# Altium schematic symbol library Flyback Transformers.SchLib: 68 symbols
Pins are listed as number, name and electrical type; pins without a type are passive.

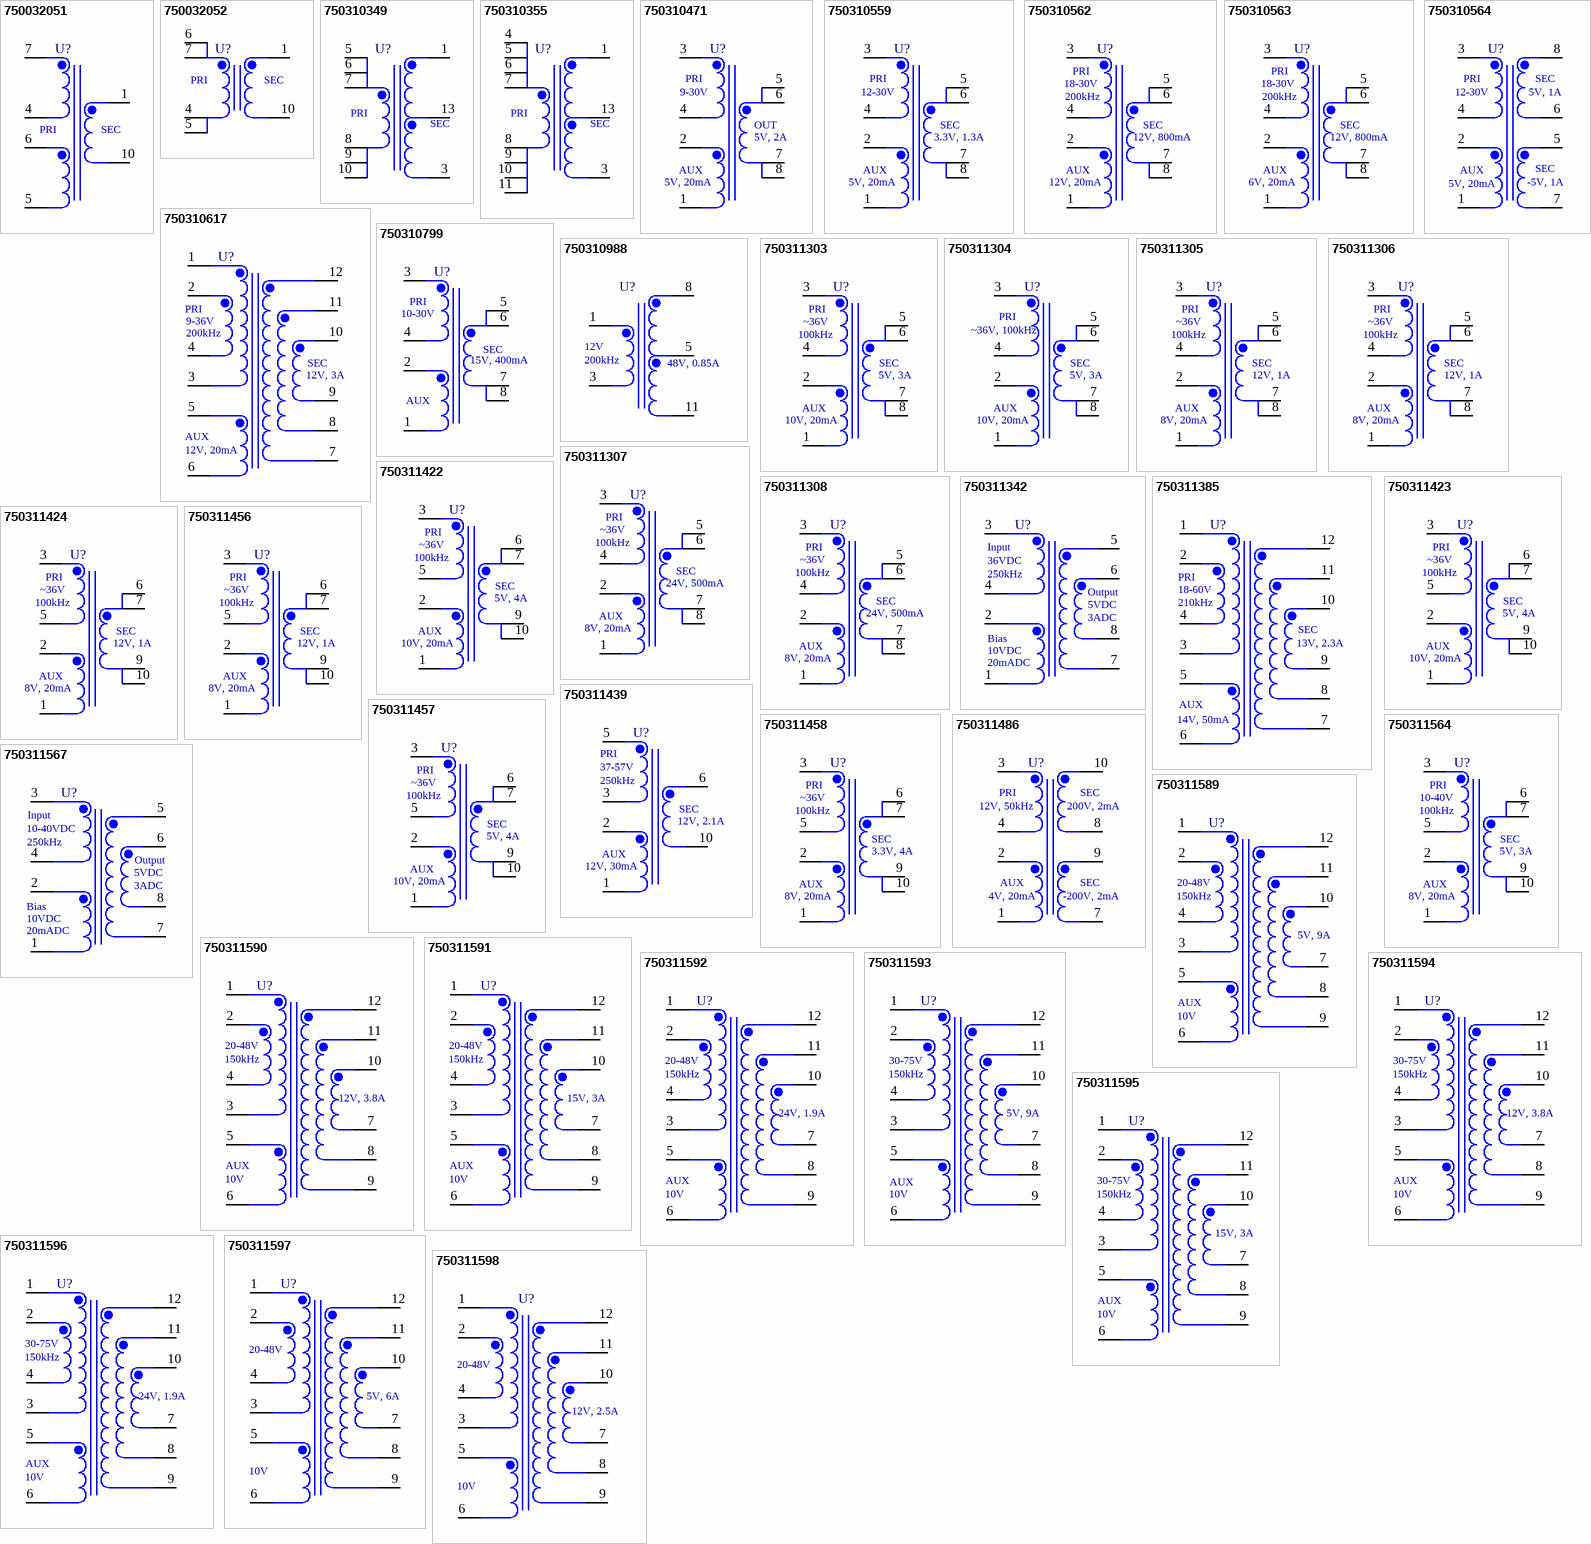
[diagram p0: symbols 750032051 to 750311598]

## 750032051
designator U?  (value not drawn)
WE-FB 3751 Flyback Transformer for LT3751, size EFD20, Ui=18-30Vdc; Turns Ratio: 1:10; ComponentLink1Description: Manufacturer; ComponentLink1URL: http://www.we-online.de; ComponentLink2Description: Datasheet; ComponentLink2URL: http://katalog.we-online.de/pbs/datasheet/750032051.pdf; Part Number: 750032051; Published Date: July 2017; Publisher: Wurth Elektronik; Input Voltage: 18-30Vdc; Size: EFD20; IC Reference: LT3751; Value: 750032051
footprint WE-FB 3751_EFD20 (Flyback Transformer for LT3751, size EE35/18/10)
pins: 1, 4, 5, 6, 7, 10
text: PRI; SEC

## 750032052
designator U?  (value not drawn)
WE-FB 3751 Flyback Transformer for LT3751, size EFD20, Ui=18-30Vdc; Turns Ratio: 1:10; ComponentLink1Description: Manufacturer; ComponentLink1URL: http://www.we-online.de; ComponentLink2Description: Datasheet; ComponentLink2URL: http://katalog.we-online.de/pbs/datasheet/750032052.pdf; Part Number: 750032052; Published Date: July 2017; Publisher: Wurth Elektronik; Input Voltage: 18-30Vdc; Size: EFD20; IC Reference: LT3751; Value: 750032052
footprint WE-FB 3751_EFD20 (Flyback Transformer for LT3751, size EE35/18/10)
pins: 1, 4, 5, 6, 7, 10
text: PRI; SEC

## 750310349
designator U?  (value not drawn)
WE-FB 3751 Flyback Transformer for LT3751, size EE35/18/10, Ui=18-30Vdc; Turns Ratio: 1:10; ComponentLink1Description: Manufacturer; ComponentLink1URL: http://www.we-online.de; ComponentLink2Description: Datasheet; ComponentLink2URL: http://katalog.we-online.de/pbs/datasheet/750310349.pdf; Part Number: 750310349; Published Date: July 2017; Publisher: Wurth Elektronik; Input Voltage: 18-30Vdc; Size: EE35/18/10; IC Reference: LT3751; Value: 750310349
footprint WE-FB 3751_EE35/18/10 (Flyback Transformer for LT3751, size EE35/18/10)
pins: 1, 3, 5, 6, 7, 8, 9, 10, 13
text: PRI; SEC

## 750310355
designator U?  (value not drawn)
WE-FB 3751 Flyback Transformer for LT3751, size EE35/18/10, Ui=18-30Vdc; Turns Ratio: 1:10; ComponentLink1Description: Manufacturer; ComponentLink1URL: http://www.we-online.de; ComponentLink2Description: Datasheet; ComponentLink2URL: http://katalog.we-online.de/pbs/datasheet/750310355.pdf; Part Number: 750310355; Published Date: July 2017; Publisher: Wurth Elektronik; Input Voltage: 18-30Vdc; Size: EE35/18/10; IC Reference: LT3751; Value: 750310355
footprint WE-FB 3751_EE35/18/10 (Flyback Transformer for LT3751, size EE35/18/10)
pins: 1, 3, 4, 5, 6, 7, 8, 9, 10, 11, 13
text: PRI; SEC

## 750310471
designator U?  (value not drawn)
WE-FB Flyback Transformer suitable for LT3573/ LT3574/ LT3575/ LT3748, size EP10, Ui=9-30Vdc; IC Reference: LT3573 & LT3575; Turns Ratio: 3:1; ComponentLink1Description: Manufacturer; ComponentLink1URL: http://www.we-online.de; ComponentLink2Description: Datasheet; ComponentLink2URL: http://katalog.we-online.de/pbs/datasheet/750310471.pdf; Part Number: 750310471; Published Date: July 2017; Publisher: Wurth Elektronik; Input Voltage: 9-30Vdc; Size: EP10; Value: 750310471
footprint 750310471
pins: 1, 2, 3, 4, 5, 6, 7, 8
text: PRI; 9-30V; OUT; 5V, 2A; AUX; 5V, 20mA

## 750310559
designator U?  (value not drawn)
WE-FB Flyback Transformer suitable for LT3573/ LT3574/ LT3575/ LT3748, size EP10, Ui=12-30Vdc; IC Reference: LT3573 & LT3575; Turns Ratio: 4:1; ComponentLink1Description: Manufacturer; ComponentLink1URL: http://www.we-online.de; ComponentLink2Description: Datasheet; ComponentLink2URL: http://katalog.we-online.de/pbs/datasheet/750310559.pdf; Part Number: 750310559; Published Date: July 2017; Publisher: Wurth Elektronik; Input Voltage: 12-30Vdc; Size: EP10; Value: 750310559
footprint 750310559
pins: 1, 2, 3, 4, 5, 6, 7, 8
text: PRI; 12-30V; SEC; 3.3V, 1.3A; AUX; 5V, 20mA

## 750310562
designator U?  (value not drawn)
WE-FB Flyback Transformer suitable for LT3573/ LT3574/ LT3575/ LT3748, size EP10, Ui=18-30Vdc; IC Reference: LT3573 & LT3575; Turns Ratio: 2:1; ComponentLink1Description: Manufacturer; ComponentLink1URL: http://www.we-online.de; ComponentLink2Description: Datasheet; ComponentLink2URL: http://katalog.we-online.de/pbs/datasheet/750310562.pdf; Part Number: 750310562; Published Date: July 2017; Publisher: Wurth Elektronik; Input Voltage: 18-30Vdc; Size: EP10; Value: 750310562
footprint 750310562
pins: 1, 2, 3, 4, 5, 6, 7, 8
text: PRI; 18-30V; 200kHz; SEC; 12V, 800mA; AUX; 12V, 20mA

## 750310563
designator U?  (value not drawn)
WE-FB Flyback Transformer suitable for LT3573/ LT3574/ LT3575/ LT3748, size EP10, Ui=18-30Vdc; IC Reference: LT3573 & LT3575; Turns Ratio: 1:1; ComponentLink1Description: Manufacturer; ComponentLink1URL: http://www.we-online.de; ComponentLink2Description: Datasheet; ComponentLink2URL: http://katalog.we-online.de/pbs/datasheet/750310563.pdf; Part Number: 750310563; Published Date: July 2017; Publisher: Wurth Elektronik; Input Voltage: 18-30Vdc; Size: EP10; Value: 750310563
footprint 750310563
pins: 1, 2, 3, 4, 5, 6, 7, 8
text: PRI; 18-30V; 200kHz; SEC; 12V, 800mA; AUX; 6V, 20mA

## 750310564
designator U?  (value not drawn)
WE-FB Flyback Transformer suitable for LT3573/ LT3574/ LT3575/ LT3748, size EP10, Ui=12-30Vdc; IC Reference: LT3574 & LT3573 & LT3575; Turns Ratio: 3:1; ComponentLink1Description: Manufacturer; ComponentLink1URL: http://www.we-online.de; ComponentLink2Description: Datasheet; ComponentLink2URL: http://katalog.we-online.de/pbs/datasheet/750310564.pdf; Part Number: 750310564; Published Date: July 2017; Publisher: Wurth Elektronik; Input Voltage: 12-30Vdc; Size: EP10; Value: 750310564
footprint 750310564
pins: 1, 2, 3, 4, 5, 6, 7, 8
text: PRI; SEC; 12-30V; 5V, 1A; AUX; 5V, 20mA; -5V, 1A

## 750310617
designator U?  (value not drawn)
WE-FB Flyback Transformer suitable for LT3573/ LT3574/ LT3575/ LT3748, size EFD20, Ui=9-36Vdc; Turns Ratio: 1:1.16; ComponentLink1Description: Manufacturer; ComponentLink1URL: http://www.we-online.de; ComponentLink2Description: Datasheet; ComponentLink2URL: http://katalog.we-online.de/pbs/datasheet/750310617.pdf; Part Number: 750310617; Published Date: July 2017; Publisher: Wurth Elektronik; Input Voltage: 9-36Vdc; Size: EFD20; IC Reference: LT3748; Value: 750310617
footprint 750310617
pins: 1, 2, 3, 4, 5, 6, 7, 8, 9, 10, 11, 12
text: PRI; 9-36V; 200kHz; SEC; 12V, 3A; AUX; 12V, 20mA

## 750310799
designator U?  (value not drawn)
WE-FB Flyback Transformer suitable for LT3573/ LT3574/ LT3575/ LT3748, size EP7, Ui=10-30Vdc; IC Reference: LT3573; Turns Ratio: 1:1; ComponentLink1Description: Manufacturer; ComponentLink1URL: http://www.we-online.de; ComponentLink2Description: Datasheet; ComponentLink2URL: http://katalog.we-online.de/pbs/datasheet/750310799.pdf; Part Number: 750310799; Published Date: July 2017; Publisher: Wurth Elektronik; Input Voltage: 10-30Vdc; Size: EP7; Value: 750310799
footprint 750310799
pins: 1, 2, 3, 4, 5, 6, 7, 8
text: PRI; 10-30V; SEC; 15V, 400mA; AUX

## 750310988
designator U?  (value not drawn)
WE-FB Flyback Transformer suitable for LT3573/ LT3574/ LT3575/ LT3748, size EFD25, Ui=12Vdc; Input Voltage: 12Vdc; Turns Ratio: 1:4.42; ComponentLink1Description: Manufacturer; ComponentLink1URL: http://www.we-online.de; ComponentLink2Description: Datasheet; ComponentLink2URL: http://katalog.we-online.de/pbs/datasheet/750310988.pdf; Part Number: 750310988; Published Date: July 2017; Publisher: Wurth Elektronik; Size: EFD25; IC Reference: LT3748; Value: 750310988
footprint 750310988
pins: 1, 3, 5, 8, 11
text: 12V; 200kHz; 48V, 0.85A

## 750311303
designator U?  (value not drawn)
WE-FB Flyback Transformer suitable for LT3573/ LT3574/ LT3575/ LT3748, size EP10, Ui=36Vdc; Input Voltage: 36Vdc; IC Reference: LT3575; Turns Ratio: 5:1; ComponentLink1Description: Manufacturer; ComponentLink1URL: http://www.we-online.de; ComponentLink2Description: Datasheet; ComponentLink2URL: http://katalog.we-online.de/pbs/datasheet/750311303.pdf; Part Number: 750311303; Published Date: July 2017; Publisher: Wurth Elektronik; Size: EP10; Value: 750311303
footprint 750311303
pins: 1, 2, 3, 4, 5, 6, 7, 8
text: PRI; ~36V; 100kHz; SEC; 5V, 3A; AUX; 10V, 20mA

## 750311304
designator U?  (value not drawn)
WE-FB Flyback Transformer suitable for LT3573/ LT3574/ LT3575/ LT3748, size EP10, Ui=36Vdc; Input Voltage: 36Vdc; IC Reference: LT3574 & LT3575; Turns Ratio: 4:1; ComponentLink1Description: Manufacturer; ComponentLink1URL: http://www.we-online.de; ComponentLink2Description: Datasheet; ComponentLink2URL: http://katalog.we-online.de/pbs/datasheet/750311304.pdf; Part Number: 750311304; Published Date: July 2017; Publisher: Wurth Elektronik; Size: EP10; Value: 750311304
footprint 750311304
pins: 1, 2, 3, 4, 5, 6, 7, 8
text: PRI; ~36V, 100kHz; SEC; 5V, 3A; AUX; 10V, 20mA

## 750311305
designator U?  (value not drawn)
WE-FB Flyback Transformer suitable for LT3573/ LT3574/ LT3575/ LT3748, size EP10, Ui=36Vdc; Input Voltage: 36Vdc; IC Reference: LT3575; Turns Ratio: 3:1; ComponentLink1Description: Manufacturer; ComponentLink1URL: http://www.we-online.de; ComponentLink2Description: Datasheet; ComponentLink2URL: http://katalog.we-online.de/pbs/datasheet/750311305.pdf; Part Number: 750311305; Published Date: July 2017; Publisher: Wurth Elektronik; Size: EP10; Value: 750311305
footprint 750311305
pins: 1, 2, 3, 4, 5, 6, 7, 8
text: PRI; ~36V; 100kHz; SEC; 12V, 1A; AUX; 8V, 20mA

## 750311306
designator U?  (value not drawn)
WE-FB Flyback Transformer suitable for LT3573/ LT3574/ LT3575/ LT3748, size EP10, Ui=36Vdc; Input Voltage: 36Vdc; IC Reference: LT3575; Turns Ratio: 3:1; ComponentLink1Description: Manufacturer; ComponentLink1URL: http://www.we-online.de; ComponentLink2Description: Datasheet; ComponentLink2URL: http://katalog.we-online.de/pbs/datasheet/750311306.pdf; Part Number: 750311306; Published Date: July 2017; Publisher: Wurth Elektronik; Size: EP10; Value: 750311306
footprint 750311306
pins: 1, 2, 3, 4, 5, 6, 7, 8
text: PRI; ~36V; 100kHz; SEC; 12V, 1A; AUX; 8V, 20mA

## 750311307
designator U?  (value not drawn)
WE-FB Flyback Transformer suitable for LT3573/ LT3574/ LT3575/ LT3748, size EP10, Ui=36Vdc; Input Voltage: 36Vdc; IC Reference: LT3574 & LT3575; Turns Ratio: 2:1; ComponentLink1Description: Manufacturer; ComponentLink1URL: http://www.we-online.de; ComponentLink2Description: Datasheet; ComponentLink2URL: http://katalog.we-online.de/pbs/datasheet/750311307.pdf; Part Number: 750311307; Published Date: July 2017; Publisher: Wurth Elektronik; Size: EP10; Value: 750311307
footprint 750311307
pins: 1, 2, 3, 4, 5, 6, 7, 8
text: PRI; ~36V; 100kHz; SEC; 24V, 500mA; AUX; 8V, 20mA

## 750311308
designator U?  (value not drawn)
WE-FB Flyback Transformer suitable for LT3573/ LT3574/ LT3575/ LT3748, size EP10, Ui=36Vdc; Input Voltage: 36Vdc; IC Reference: LT3574 & LT3575; Turns Ratio: 1:1; ComponentLink1Description: Manufacturer; ComponentLink1URL: http://www.we-online.de; ComponentLink2Description: Datasheet; ComponentLink2URL: http://katalog.we-online.de/pbs/datasheet/750311308.pdf; Part Number: 750311308; Published Date: July 2017; Publisher: Wurth Elektronik; Size: EP10; Value: 750311308
footprint 750311308
pins: 1, 2, 3, 4, 5, 6, 7, 8
text: PRI; ~36V; 100kHz; SEC; 24V, 500mA; AUX; 8V, 20mA

## 750311342
designator U?  (value not drawn)
WE-FB Flyback Transformer suitable for LT3573/ LT3574/ LT3575/ LT3748, size EP10, Ui=36Vdc; Input Voltage: 36Vdc; IC Reference: LT3575; Turns Ratio: 2:1; ComponentLink1Description: Manufacturer; ComponentLink1URL: http://www.we-online.de; ComponentLink2Description: Datasheet; ComponentLink2URL: http://katalog.we-online.de/pbs/datasheet/750311342.pdf; Part Number: 750311342; Published Date: July 2017; Publisher: Wurth Elektronik; Size: EP10; Value: 750311342
footprint 750311342
pins: 1, 2, 3, 4, 5, 6, 7, 8
text: Input; 36VDC; 250kHz; Output; 5VDC; 3ADC; Bias; 10VDC; 20mADC

## 750311385
designator U?  (value not drawn)
WE-FB Flyback Transformer suitable for LT3573/ LT3574/ LT3575/ LT3748, size EFD20, Ui=18-60Vdc; Turns Ratio: 1.25:1; ComponentLink1Description: Manufacturer; ComponentLink1URL: http://www.we-online.de; ComponentLink2Description: Datasheet; ComponentLink2URL: http://katalog.we-online.de/pbs/datasheet/750311385.pdf; Part Number: 750311385; Published Date: July 2017; Publisher: Wurth Elektronik; Input Voltage: 18-60Vdc; Size: EFD20; IC Reference: LT3748; Value: 750311385
footprint 750311385
pins: 1, 2, 3, 4, 5, 6, 7, 8, 9, 10, 11, 12
text: PRI; 18-60V; 210kHz; SEC; 13V, 2.3A; AUX; 14V, 50mA

## 750311422
designator U?  (value not drawn)
WE-FB Flyback Transformer suitable for LT3573/ LT3574/ LT3575/ LT3748, size EP13, Ui=36Vdc; Input Voltage: 36Vdc; IC Reference: LT3575 & LT3748; Turns Ratio: 5:1; ComponentLink1Description: Manufacturer; ComponentLink1URL: http://www.we-online.de; ComponentLink2Description: Datasheet; ComponentLink2URL: http://katalog.we-online.de/pbs/datasheet/750311422.pdf; Part Number: 750311422; Published Date: July 2017; Publisher: Wurth Elektronik; Size: EP13; Value: 750311422
footprint 750311422
pins: 1, 2, 3, 5, 6, 7, 9, 10
text: PRI; ~36V; 100kHz; SEC; 5V, 4A; AUX; 10V, 20mA

## 750311423
designator U?  (value not drawn)
WE-FB Flyback Transformer suitable for LT3573/ LT3574/ LT3575/ LT3748, size EP13, Ui=36Vdc; Input Voltage: 36Vdc; IC Reference: LT3575 & LT3748; Turns Ratio: 4:1; ComponentLink1Description: Manufacturer; ComponentLink1URL: http://www.we-online.de; ComponentLink2Description: Datasheet; ComponentLink2URL: http://katalog.we-online.de/pbs/datasheet/750311423.pdf; Part Number: 750311423; Published Date: July 2017; Publisher: Wurth Elektronik; Size: EP13; Value: 750311423
footprint 750311423
pins: 1, 2, 3, 5, 6, 7, 9, 10
text: PRI; ~36V; 100kHz; SEC; 5V, 4A; AUX; 10V, 20mA

## 750311424
designator U?  (value not drawn)
WE-FB Flyback Transformer suitable for LT3573/ LT3574/ LT3575/ LT3748, size EP13, Ui=36Vdc; Input Voltage: 36Vdc; Turns Ratio: 3:1; ComponentLink1Description: Manufacturer; ComponentLink1URL: http://www.we-online.de; ComponentLink2Description: Datasheet; ComponentLink2URL: http://katalog.we-online.de/pbs/datasheet/750311424.pdf; Part Number: 750311424; Published Date: July 2017; Publisher: Wurth Elektronik; Size: EP13; IC Reference: LT3748; Value: 750311424
footprint 750311424
pins: 1, 2, 3, 5, 6, 7, 9, 10
text: PRI; ~36V; 100kHz; SEC; 12V, 1A; AUX; 8V, 20mA

## 750311439
designator U?  (value not drawn)
WE-FB Flyback Transformer suitable for LT3573/ LT3574/ LT3575/ LT3748, size EP13, Ui=37-57Vdc; IC Reference: LT3575 & LT3748; Turns Ratio: 2:1; ComponentLink1Description: Manufacturer; ComponentLink1URL: http://www.we-online.de; ComponentLink2Description: Datasheet; ComponentLink2URL: http://katalog.we-online.de/pbs/datasheet/750311439.pdf; Part Number: 750311439; Published Date: July 2017; Publisher: Wurth Elektronik; Input Voltage: 37-57Vdc; Size: EP13; Value: 750311439
footprint 750311439
pins: 1, 2, 3, 5, 6, 10
text: PRI; 37-57V; 250kHz; SEC; 12V, 2.1A; AUX; 12V, 30mA

## 750311456
designator U?  (value not drawn)
WE-FB Flyback Transformer suitable for LT3573/ LT3574/ LT3575/ LT3748, size EP13, Ui=36Vdc; Input Voltage: 36Vdc; Turns Ratio: 3:1; ComponentLink1Description: Manufacturer; ComponentLink1URL: http://www.we-online.de; ComponentLink2Description: Datasheet; ComponentLink2URL: http://katalog.we-online.de/pbs/datasheet/750311456.pdf; Part Number: 750311456; Published Date: July 2017; Publisher: Wurth Elektronik; Size: EP13; IC Reference: LT3748; Value: 750311456
footprint 750311456
pins: 1, 2, 3, 5, 6, 7, 9, 10
text: PRI; ~36V; 100kHz; SEC; 12V, 1A; AUX; 8V, 20mA

## 750311457
designator U?  (value not drawn)
WE-FB Flyback Transformer suitable for LT3573/ LT3574/ LT3575/ LT3748, size EP13, Ui=36Vdc; Input Voltage: 36Vdc; IC Reference: LT3575 & LT3748; Turns Ratio: 4:1; ComponentLink1Description: Manufacturer; ComponentLink1URL: http://www.we-online.de; ComponentLink2Description: Datasheet; ComponentLink2URL: http://katalog.we-online.de/pbs/datasheet/750311457.pdf; Part Number: 750311457; Published Date: July 2017; Publisher: Wurth Elektronik; Size: EP13; Value: 750311457
footprint 750311457
pins: 1, 2, 3, 5, 6, 7, 9, 10
text: PRI; ~36V; 100kHz; SEC; 5V, 4A; AUX; 10V, 20mA

## 750311458
designator U?  (value not drawn)
WE-FB Flyback Transformer suitable for LT3573/ LT3574/ LT3575/ LT3748, size EP13, Ui=36Vdc; Input Voltage: 36Vdc; IC Reference: LT3575 & LT3748; Turns Ratio: 3:1; ComponentLink1Description: Manufacturer; ComponentLink1URL: http://www.we-online.de; ComponentLink2Description: Datasheet; ComponentLink2URL: http://katalog.we-online.de/pbs/datasheet/750311458.pdf; Part Number: 750311458; Published Date: July 2017; Publisher: Wurth Elektronik; Size: EP13; Value: 750311458
footprint 750311458
pins: 1, 2, 3, 5, 6, 7, 9, 10
text: PRI; ~36V; 100kHz; SEC; 3.3V, 4A; AUX; 8V, 20mA

## 750311486
designator U?  (value not drawn)
WE-FB Flyback Transformer suitable for LT3573/ LT3574/ LT3575/ LT3748, size EP13, Ui=12Vdc; Input Voltage: 12Vdc; Turns Ratio: 1:10; ComponentLink1Description: Manufacturer; ComponentLink1URL: http://www.we-online.de; ComponentLink2Description: Datasheet; ComponentLink2URL: http://katalog.we-online.de/pbs/datasheet/750311486.pdf; Part Number: 750311486; Published Date: July 2017; Publisher: Wurth Elektronik; Size: EP13; IC Reference: LT3748; Value: 750311486
footprint 750311486
pins: 1, 2, 3, 4, 7, 8, 9, 10
text: PRI; SEC; 12V, 50kHz; 200V, 2mA; AUX; 4V, 20mA; -200V, 2mA

## 750311564
designator U?  (value not drawn)
WE-FB Flyback Transformer suitable for LT3573/ LT3574/ LT3575/ LT3748, size EP13, Ui=10-40Vdc; IC Reference: LT3575 & LT3748; Turns Ratio: 3:1; ComponentLink1Description: Manufacturer; ComponentLink1URL: http://www.we-online.de; ComponentLink2Description: Datasheet; ComponentLink2URL: http://katalog.we-online.de/pbs/datasheet/750311564.pdf; Part Number: 750311564; Published Date: July 2017; Publisher: Wurth Elektronik; Input Voltage: 10-40Vdc; Size: EP13; Value: 750311564
footprint 750311564
pins: 1, 2, 3, 5, 6, 7, 9, 10
text: PRI; 10-40V; 100kHz; SEC; 5V, 3A; AUX; 8V, 20mA

## 750311567
designator U?  (value not drawn)
WE-FB Flyback Transformer suitable for LT3573/ LT3574/ LT3575/ LT3748, size EP10, Ui=10-40Vdc; IC Reference: LT3575 & LT3748; Turns Ratio: 2:1; ComponentLink1Description: Manufacturer; ComponentLink1URL: http://www.we-online.de; ComponentLink2Description: Datasheet; ComponentLink2URL: http://katalog.we-online.de/pbs/datasheet/750311567.pdf; Part Number: 750311567; Published Date: July 2017; Publisher: Wurth Elektronik; Input Voltage: 10-40Vdc; Size: EP10; Value: 750311567
footprint 750311567
pins: 1, 2, 3, 4, 5, 6, 7, 8
text: Input; 10-40VDC; 250kHz; Output; 5VDC; 3ADC; Bias; 10VDC; 20mADC

## 750311589
designator U?  (value not drawn)
WE-FB Flyback Transformer suitable for LT3573/ LT3574/ LT3575/ LT3748, size EFD25, Ui=20-48Vdc; Turns Ratio: 3:1; ComponentLink1Description: Manufacturer; ComponentLink1URL: http://www.we-online.de; ComponentLink2Description: Datasheet; ComponentLink2URL: http://katalog.we-online.de/pbs/datasheet/750311589.pdf; Part Number: 750311589; Published Date: July 2017; Publisher: Wurth Elektronik; Input Voltage: 20-48Vdc; Size: EFD25; IC Reference: LT3748; Value: 750311589
footprint 750311589
pins: 1, 2, 3, 4, 5, 6, 7, 8, 9, 10, 11, 12
text: 20-48V; 150kHz; 5V, 9A; AUX; 10V

## 750311590
designator U?  (value not drawn)
WE-FB Flyback Transformer suitable for LT3573/ LT3574/ LT3575/ LT3748, size EFD25, Ui=20-48Vdc; Turns Ratio: 2:1; ComponentLink1Description: Manufacturer; ComponentLink1URL: http://www.we-online.de; ComponentLink2Description: Datasheet; ComponentLink2URL: http://katalog.we-online.de/pbs/datasheet/750311590.pdf; Part Number: 750311590; Published Date: July 2017; Publisher: Wurth Elektronik; Input Voltage: 20-48Vdc; Size: EFD25; IC Reference: LT3748; Value: 750311590
footprint 750311590
pins: 1, 2, 3, 4, 5, 6, 7, 8, 9, 10, 11, 12
text: 20-48V; 150kHz; 12V, 3.8A; AUX; 10V

## 750311591
designator U?  (value not drawn)
WE-FB Flyback Transformer suitable for LT3573/ LT3574/ LT3575/ LT3748, size EFD25, Ui=20-48Vdc; Turns Ratio: 3:2; ComponentLink1Description: Manufacturer; ComponentLink1URL: http://www.we-online.de; ComponentLink2Description: Datasheet; ComponentLink2URL: http://katalog.we-online.de/pbs/datasheet/750311591.pdf; Part Number: 750311591; Published Date: July 2017; Publisher: Wurth Elektronik; Input Voltage: 20-48Vdc; Size: EFD25; IC Reference: LT3748; Value: 750311591
footprint 750311591
pins: 1, 2, 3, 4, 5, 6, 7, 8, 9, 10, 11, 12
text: 20-48V; 150kHz; 15V, 3A; AUX; 10V

## 750311592
designator U?  (value not drawn)
WE-FB Flyback Transformer suitable for LT3573/ LT3574/ LT3575/ LT3748, size EFD25, Ui=20-48Vdc; Turns Ratio: 1:1; ComponentLink1Description: Manufacturer; ComponentLink1URL: http://www.we-online.de; ComponentLink2Description: Datasheet; ComponentLink2URL: http://katalog.we-online.de/pbs/datasheet/750311592.pdf; Part Number: 750311592; Published Date: July 2017; Publisher: Wurth Elektronik; Input Voltage: 20-48Vdc; Size: EFD25; IC Reference: LT3748; Value: 750311592
footprint 750311592
pins: 1, 2, 3, 4, 5, 6, 7, 8, 9, 10, 11, 12
text: 20-48V; 150kHz; 24V, 1.9A; AUX; 10V

## 750311593
designator U?  (value not drawn)
WE-FB Flyback Transformer suitable for LT3573/ LT3574/ LT3575/ LT3748, size EFD25, Ui=30-75Vdc; Turns Ratio: 7:2; ComponentLink1Description: Manufacturer; ComponentLink1URL: http://www.we-online.de; ComponentLink2Description: Datasheet; ComponentLink2URL: http://katalog.we-online.de/pbs/datasheet/750311593.pdf; Part Number: 750311593; Published Date: July 2017; Publisher: Wurth Elektronik; Input Voltage: 30-75Vdc; Size: EFD25; IC Reference: LT3748; Value: 750311593
footprint 750311593
pins: 1, 2, 3, 4, 5, 6, 7, 8, 9, 10, 11, 12
text: 30-75V; 150kHz; 5V, 9A; AUX; 10V

## 750311594
designator U?  (value not drawn)
WE-FB Flyback Transformer suitable for LT3573/ LT3574/ LT3575/ LT3748, size EFD25, Ui=30-75Vdc; Turns Ratio: 5:2; ComponentLink1Description: Manufacturer; ComponentLink1URL: http://www.we-online.de; ComponentLink2Description: Datasheet; ComponentLink2URL: http://katalog.we-online.de/pbs/datasheet/750311594.pdf; Part Number: 750311594; Published Date: July 2017; Publisher: Wurth Elektronik; Input Voltage: 30-75Vdc; Size: EFD25; IC Reference: LT3748; Value: 750311594
footprint 750311594
pins: 1, 2, 3, 4, 5, 6, 7, 8, 9, 10, 11, 12
text: 30-75V; 150kHz; 12V, 3.8A; AUX; 10V

## 750311595
designator U?  (value not drawn)
WE-FB Flyback Transformer suitable for LT3573/ LT3574/ LT3575/ LT3748, size EFD25, Ui=30-75Vdc; Turns Ratio: 2:1; ComponentLink1Description: Manufacturer; ComponentLink1URL: http://www.we-online.de; ComponentLink2Description: Datasheet; ComponentLink2URL: http://katalog.we-online.de/pbs/datasheet/750311595.pdf; Part Number: 750311595; Published Date: July 2017; Publisher: Wurth Elektronik; Input Voltage: 30-75Vdc; Size: EFD25; IC Reference: LT3748; Value: 750311595
footprint 750311595
pins: 1, 2, 3, 4, 5, 6, 7, 8, 9, 10, 11, 12
text: 30-75V; 150kHz; 15V, 3A; AUX; 10V

## 750311596
designator U?  (value not drawn)
WE-FB Flyback Transformer suitable for LT3573/ LT3574/ LT3575/ LT3748, size EFD25, Ui=30-75Vdc; Turns Ratio: 3:2; ComponentLink1Description: Manufacturer; ComponentLink1URL: http://www.we-online.de; ComponentLink2Description: Datasheet; ComponentLink2URL: http://katalog.we-online.de/pbs/datasheet/750311596.pdf; Part Number: 750311596; Published Date: July 2017; Publisher: Wurth Elektronik; Input Voltage: 30-75Vdc; Size: EFD25; IC Reference: LT3748; Value: 750311596
footprint 750311596
pins: 1, 2, 3, 4, 5, 6, 7, 8, 9, 10, 11, 12
text: 30-75V; 150kHz; 24V, 1.9A; AUX; 10V

## 750311597
designator U?  (value not drawn)
WE-FB Flyback Transformer suitable for LT3573/ LT3574/ LT3575/ LT3748, size EFD20, Ui=20-48Vdc; Turns Ratio: 3:1; ComponentLink1Description: Manufacturer; ComponentLink1URL: http://www.we-online.de; ComponentLink2Description: Datasheet; ComponentLink2URL: http://katalog.we-online.de/pbs/datasheet/750311597.pdf; Part Number: 750311597; Published Date: July 2017; Publisher: Wurth Elektronik; Input Voltage: 20-48Vdc; Size: EFD20; IC Reference: LT3748; Value: 750311597
footprint 750311597
pins: 1, 2, 3, 4, 5, 6, 7, 8, 9, 10, 11, 12
text: 20-48V; 5V, 6A; 10V

## 750311598
designator U?  (value not drawn)
WE-FB Flyback Transformer suitable for LT3573/ LT3574/ LT3575/ LT3748, size EFD20, Ui=20-48Vdc; Turns Ratio: 2:1; ComponentLink1Description: Manufacturer; ComponentLink1URL: http://www.we-online.de; ComponentLink2Description: Datasheet; ComponentLink2URL: http://katalog.we-online.de/pbs/datasheet/750311598.pdf; Part Number: 750311598; Published Date: July 2017; Publisher: Wurth Elektronik; Input Voltage: 20-48Vdc; Size: EFD20; IC Reference: LT3748; Value: 750311598
footprint 750311598
pins: 1, 2, 3, 4, 5, 6, 7, 8, 9, 10, 11, 12
text: 20-48V; 12V, 2.5A; 10V

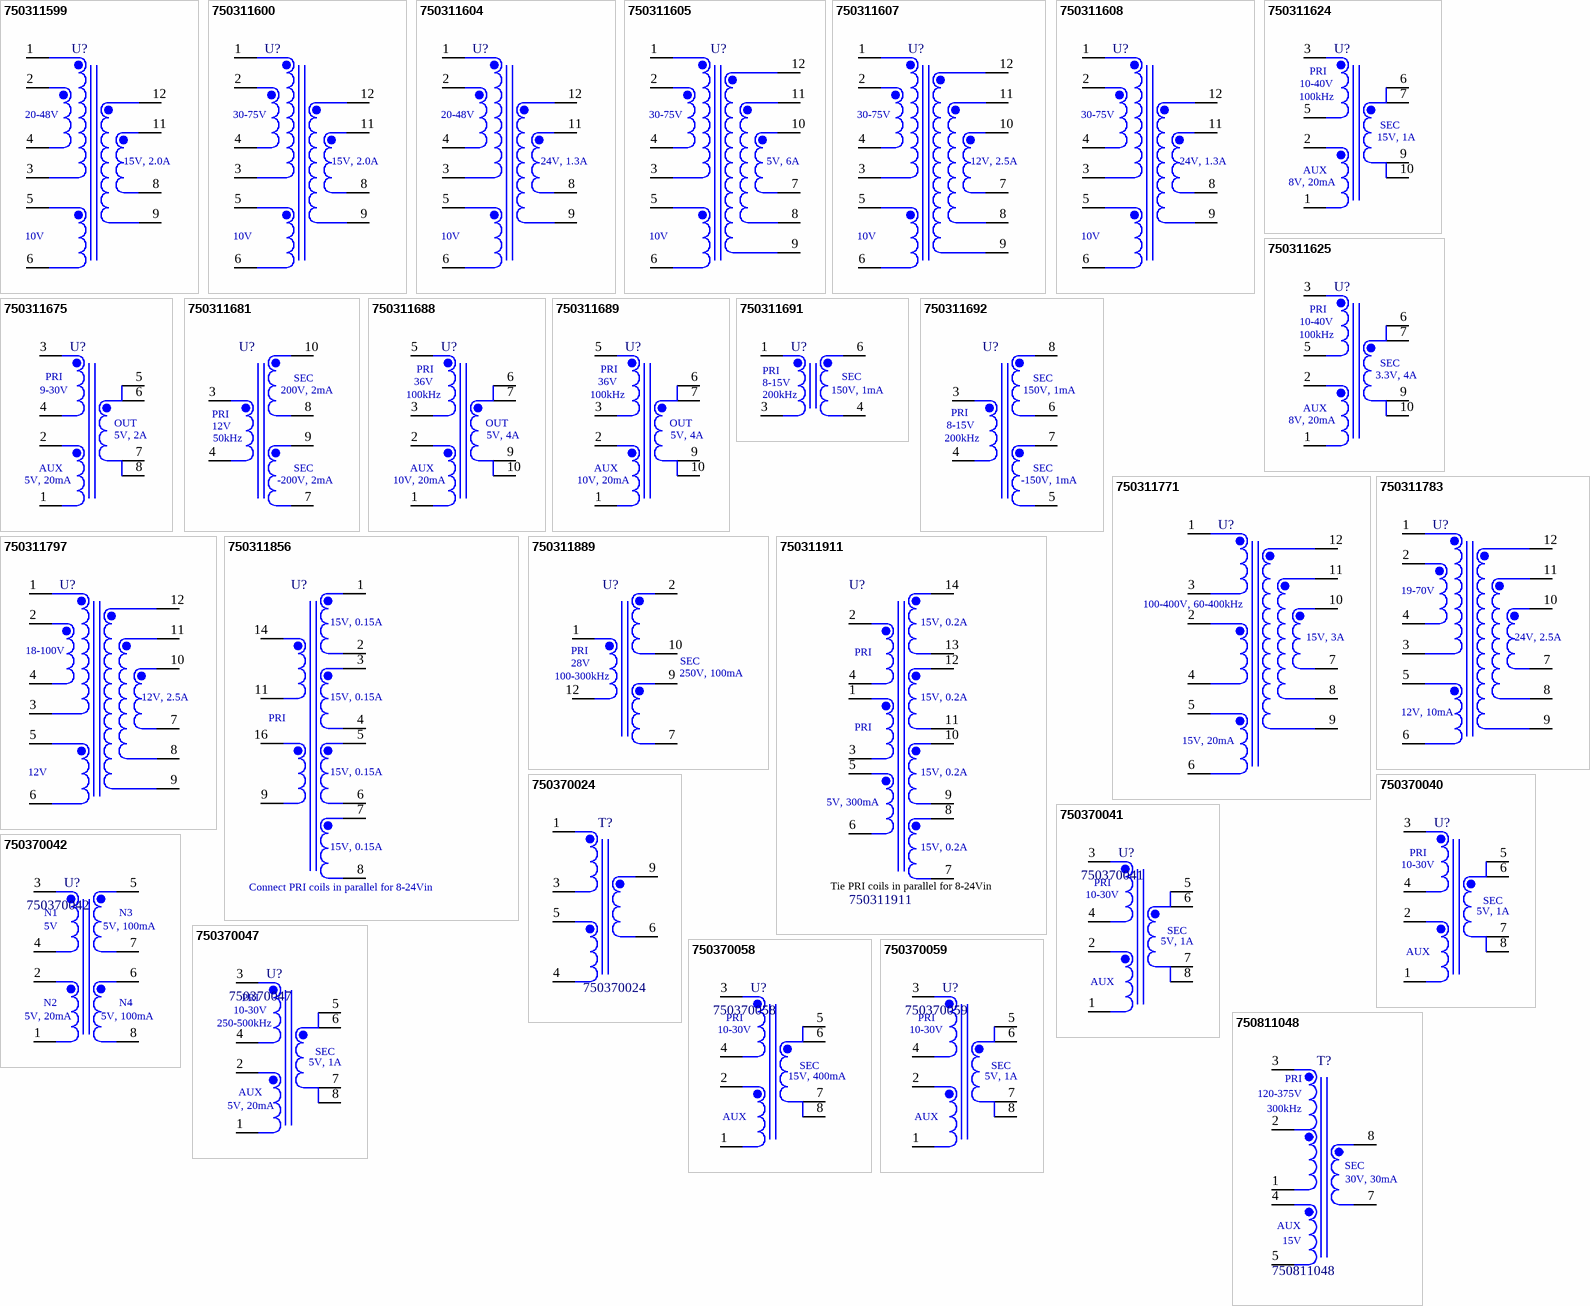
[diagram p1: symbols 750311599 to 750811048]

## 750311599
designator U?  (value not drawn)
WE-FB Flyback Transformer suitable for LT3573/ LT3574/ LT3575/ LT3748, size EFD20, Ui=20-48Vdc; Turns Ratio: 3:2; ComponentLink1Description: Manufacturer; ComponentLink1URL: http://www.we-online.de; ComponentLink2Description: Datasheet; ComponentLink2URL: http://katalog.we-online.de/pbs/datasheet/750311599.pdf; Part Number: 750311599; Published Date: July 2017; Publisher: Wurth Elektronik; Input Voltage: 20-48Vdc; Size: EFD20; IC Reference: LT3748; Value: 750311599
footprint 750311599
pins: 1, 2, 3, 4, 5, 6, 8, 9, 11, 12
text: 20-48V; 15V, 2.0A; 10V

## 750311600
designator U?  (value not drawn)
WE-FB Flyback Transformer suitable for LT3573/ LT3574/ LT3575/ LT3748, size EFD20, Ui=30-75Vdc; Turns Ratio: 2:1; ComponentLink1Description: Manufacturer; ComponentLink1URL: http://www.we-online.de; ComponentLink2Description: Datasheet; ComponentLink2URL: http://katalog.we-online.de/pbs/datasheet/750311600.pdf; Part Number: 750311600; Published Date: July 2017; Publisher: Wurth Elektronik; Input Voltage: 30-75Vdc; Size: EFD20; IC Reference: LT3748; Value: 750311600
footprint 750311600
pins: 1, 2, 3, 4, 5, 6, 8, 9, 11, 12
text: 30-75V; 15V, 2.0A; 10V

## 750311604
designator U?  (value not drawn)
WE-FB Flyback Transformer suitable for LT3573/ LT3574/ LT3575/ LT3748, size EFD20, Ui=20-48Vdc; Turns Ratio: 1:1; ComponentLink1Description: Manufacturer; ComponentLink1URL: http://www.we-online.de; ComponentLink2Description: Datasheet; ComponentLink2URL: http://katalog.we-online.de/pbs/datasheet/750311604.pdf; Part Number: 750311604; Published Date: July 2017; Publisher: Wurth Elektronik; Input Voltage: 20-48Vdc; Size: EFD20; IC Reference: LT3748; Value: 750311604
footprint 750311604
pins: 1, 2, 3, 4, 5, 6, 8, 9, 11, 12
text: 20-48V; 24V, 1.3A; 10V

## 750311605
designator U?  (value not drawn)
WE-FB Flyback Transformer suitable for LT3573/ LT3574/ LT3575/ LT3748, size EFD20, Ui=30-75Vdc; Turns Ratio: 7:2; ComponentLink1Description: Manufacturer; ComponentLink1URL: http://www.we-online.de; ComponentLink2Description: Datasheet; ComponentLink2URL: http://katalog.we-online.de/pbs/datasheet/750311605.pdf; Part Number: 750311605; Published Date: July 2017; Publisher: Wurth Elektronik; Input Voltage: 30-75Vdc; Size: EFD20; IC Reference: LT3748; Value: 750311605
footprint 750311605
pins: 1, 2, 3, 4, 5, 6, 7, 8, 9, 10, 11, 12
text: 30-75V; 5V, 6A; 10V

## 750311607
designator U?  (value not drawn)
WE-FB Flyback Transformer suitable for LT3573/ LT3574/ LT3575/ LT3748, size EFD20, Ui=30-75Vdc; Turns Ratio: 5:2; ComponentLink1Description: Manufacturer; ComponentLink1URL: http://www.we-online.de; ComponentLink2Description: Datasheet; ComponentLink2URL: http://katalog.we-online.de/pbs/datasheet/750311607.pdf; Part Number: 750311607; Published Date: July 2017; Publisher: Wurth Elektronik; Input Voltage: 30-75Vdc; Size: EFD20; IC Reference: LT3748; Value: 750311607
footprint 750311607
pins: 1, 2, 3, 4, 5, 6, 7, 8, 9, 10, 11, 12
text: 30-75V; 12V, 2.5A; 10V

## 750311608
designator U?  (value not drawn)
WE-FB Flyback Transformer suitable for LT3573/ LT3574/ LT3575/ LT3748, size EFD20, Ui=30-75Vdc; Turns Ratio: 3:2; ComponentLink1Description: Manufacturer; ComponentLink1URL: http://www.we-online.de; ComponentLink2Description: Datasheet; ComponentLink2URL: http://katalog.we-online.de/pbs/datasheet/750311608.pdf; Part Number: 750311608; Published Date: July 2017; Publisher: Wurth Elektronik; Input Voltage: 30-75Vdc; Size: EFD20; IC Reference: LT3748; Value: 750311608
footprint 750311608
pins: 1, 2, 3, 4, 5, 6, 8, 9, 11, 12
text: 30-75V; 24V, 1.3A; 10V

## 750311624
designator U?  (value not drawn)
WE-FB Flyback Transformer suitable for LT3573/ LT3574/ LT3575/ LT3748, size EP13, Ui=10-40Vdc; IC Reference: LT3575 & LT3748; Turns Ratio: 1.5:1; ComponentLink1Description: Manufacturer; ComponentLink1URL: http://www.we-online.de; ComponentLink2Description: Datasheet; ComponentLink2URL: http://katalog.we-online.de/pbs/datasheet/750311624.pdf; Part Number: 750311624; Published Date: July 2017; Publisher: Wurth Elektronik; Input Voltage: 10-40Vdc; Size: EP13; Value: 750311624
footprint 750311624
pins: 1, 2, 3, 5, 6, 7, 9, 10
text: PRI; 10-40V; 100kHz; SEC; 15V, 1A; AUX; 8V, 20mA

## 750311625
designator U?  (value not drawn)
WE-FB Flyback Transformer suitable for LT3573/ LT3574/ LT3575/ LT3748, size EP13, Ui=10-40Vdc; IC Reference: LT3575 & LT3748; Turns Ratio: 4:1; ComponentLink1Description: Manufacturer; ComponentLink1URL: http://www.we-online.de; ComponentLink2Description: Datasheet; ComponentLink2URL: http://katalog.we-online.de/pbs/datasheet/750311625.pdf; Part Number: 750311625; Published Date: July 2017; Publisher: Wurth Elektronik; Input Voltage: 10-40Vdc; Size: EP13; Value: 750311625
footprint 750311625
pins: 1, 2, 3, 5, 6, 7, 9, 10
text: PRI; 10-40V; 100kHz; SEC; 3.3V, 4A; AUX; 8V, 20mA

## 750311675
designator U?  (value not drawn)
WE-FB Flyback Transformer suitable for LT3573/ LT3574/ LT3575/ LT3748, size EP10, Ui=9-30Vdc; IC Reference: LT3573 & LT3575 & LT3748; Turns Ratio: 3:1; ComponentLink1Description: Manufacturer; ComponentLink1URL: http://www.we-online.de; ComponentLink2Description: Datasheet; ComponentLink2URL: http://katalog.we-online.de/pbs/datasheet/750311675.pdf; Part Number: 750311675; Published Date: July 2017; Publisher: Wurth Elektronik; Input Voltage: 9-30Vdc; Size: EP10; Value: 750311675
footprint 750311675
pins: 1, 2, 3, 4, 5, 6, 7, 8
text: PRI; 9-30V; OUT; 5V, 2A; AUX; 5V, 20mA

## 750311681
designator U?  (value not drawn)
WE-FB Flyback Transformer suitable for LT3573/ LT3574/ LT3575/ LT3748, size EP13, Ui=12Vdc; Input Voltage: 12Vdc; Turns Ratio: 1:10:10; ComponentLink1Description: Manufacturer; ComponentLink1URL: http://www.we-online.de; ComponentLink2Description: Datasheet; ComponentLink2URL: http://katalog.we-online.de/pbs/datasheet/750311681.pdf; Part Number: 750311681; Published Date: July 2017; Publisher: Wurth Elektronik; Size: EP13; IC Reference: LT3748; Value: 750311681
footprint 750311681
pins: 3, 4, 7, 8, 9, 10
text: SEC; 200V, 2mA; PRI; 12V; 50kHz; -200V, 2mA

## 750311688
designator U?  (value not drawn)
WE-FB Flyback Transformer suitable for LT3573/ LT3574/ LT3575/ LT3748, size EP13, Ui=36Vdc; Input Voltage: 36Vdc; IC Reference: LT3575 & LT3748; Turns Ratio: 5:1; ComponentLink1Description: Manufacturer; ComponentLink1URL: http://www.we-online.de; ComponentLink2Description: Datasheet; ComponentLink2URL: http://katalog.we-online.de/pbs/datasheet/750311688.pdf; Part Number: 750311688; Published Date: July 2017; Publisher: Wurth Elektronik; Size: EP13; Value: 750311688
footprint 750311688
pins: 1, 2, 3, 5, 6, 7, 9, 10
text: PRI; 36V; 100kHz; OUT; 5V, 4A; AUX; 10V, 20mA

## 750311689
designator U?  (value not drawn)
WE-FB Flyback Transformer suitable for LT3573/ LT3574/ LT3575/ LT3748, size EP13, Ui=36Vdc; Input Voltage: 36Vdc; IC Reference: LT3575 & LT3748; Turns Ratio: 4:1; ComponentLink1Description: Manufacturer; ComponentLink1URL: http://www.we-online.de; ComponentLink2Description: Datasheet; ComponentLink2URL: http://katalog.we-online.de/pbs/datasheet/750311689.pdf; Part Number: 750311689; Published Date: July 2017; Publisher: Wurth Elektronik; Size: EP13; Value: 750311689
footprint 750311689
pins: 1, 2, 3, 5, 6, 7, 9, 10
text: PRI; 36V; 100kHz; OUT; 5V, 4A; AUX; 10V, 20mA

## 750311691
designator U?  (value not drawn)
WE-FB Flyback Transformer suitable for LT3573/ LT3574/ LT3575/ LT3748, size EP5, Ui=8-15Vdc; Turns Ratio: 5:1; ComponentLink1Description: Manufacturer; ComponentLink1URL: http://www.we-online.de; ComponentLink2Description: Datasheet; ComponentLink2URL: http://katalog.we-online.de/pbs/datasheet/750311691.pdf; Part Number: 750311691; Published Date: July 2017; Publisher: Wurth Elektronik; Input Voltage: 8-15Vdc; Size: EP5; IC Reference: LT3748; Value: 750311691
footprint 750311691
pins: 1, 3, 4, 6
text: PRI; SEC; 8-15V; 200kHz; 150V, 1mA

## 750311692
designator U?  (value not drawn)
WE-FB Flyback Transformer suitable for LT3573/ LT3574/ LT3575/ LT3748, size EP7, Ui=8-15Vdc; Turns Ratio: 5:1; ComponentLink1Description: Manufacturer; ComponentLink1URL: http://www.we-online.de; ComponentLink2Description: Datasheet; ComponentLink2URL: http://katalog.we-online.de/pbs/datasheet/750311692.pdf; Part Number: 750311692; Published Date: July 2017; Publisher: Wurth Elektronik; Input Voltage: 8-15Vdc; Size: EP7; IC Reference: LT3748; Value: 750311692
footprint 750311692
pins: 3, 4, 5, 6, 7, 8
text: SEC; 150V, 1mA; PRI; 8-15V; 200kHz; -150V, 1mA

## 750311771
designator U?  (value not drawn)
WE-FB Flyback Transformer suitable for LT3573/ LT3574/ LT3575/ LT3748, size EFD25, Ui=100-400Vdc; Turns Ratio: 6:1; ComponentLink1Description: Manufacturer; ComponentLink1URL: http://www.we-online.de; ComponentLink2Description: Datasheet; ComponentLink2URL: http://katalog.we-online.de/pbs/datasheet/750311771.pdf; Part Number: 750311771; Published Date: July 2017; Publisher: Wurth Elektronik; Input Voltage: 100-400Vdc; Size: EFD25; IC Reference: LT3748; Value: 750311771
footprint 750311771
pins: 1, 2, 3, 4, 5, 6, 7, 8, 9, 10, 11, 12
text: 100-400V, 60-400kHz; 15V, 3A; 15V, 20mA

## 750311783
designator U?  (value not drawn)
WE-FB Flyback Transformer suitable for LT3573/ LT3574/ LT3575/ LT3748, size EFD25, Ui=19-70Vdc; Turns Ratio: 1.5:1; ComponentLink1Description: Manufacturer; ComponentLink1URL: http://www.we-online.de; ComponentLink2Description: Datasheet; ComponentLink2URL: http://katalog.we-online.de/pbs/datasheet/750311783.pdf; Part Number: 750311783; Published Date: July 2017; Publisher: Wurth Elektronik; Input Voltage: 19-70Vdc; Size: EFD25; IC Reference: LT3748; Value: 750311783
footprint 750311783
pins: 1, 2, 3, 4, 5, 6, 7, 8, 9, 10, 11, 12
text: 19-70V; 24V, 2.5A; 12V, 10mA

## 750311797
designator U?  (value not drawn)
WE-FB Flyback Transformer suitable for LT3573/ LT3574/ LT3575/ LT3748, size EFD20, Ui=18-100Vdc; Turns Ratio: 2:5:1; ComponentLink1Description: Manufacturer; ComponentLink1URL: http://www.we-online.de; ComponentLink2Description: Datasheet; ComponentLink2URL: http://katalog.we-online.de/pbs/datasheet/750311797.pdf; Part Number: 750311797; Published Date: July 2017; Publisher: Wurth Elektronik; Input Voltage: 18-100Vdc; Size: EFD20; IC Reference: LT3748; Value: 750311797
footprint 750311797
pins: 1, 2, 3, 4, 5, 6, 7, 8, 9, 10, 11, 12
text: 18-100V; 12V, 2.5A; 12V

## 750311856
designator U?  (value not drawn)
WE-FB Flyback Transformer suitable for LT3573/ LT3574/ LT3575/ LT3748, size EP13, Ui=8-24Vdc; IC Reference: LT3575 & LT3748; Turns Ratio: 1:4:4:4:4; ComponentLink1Description: Manufacturer; ComponentLink1URL: http://www.we-online.de; ComponentLink2Description: Datasheet; ComponentLink2URL: http://katalog.we-online.de/pbs/datasheet/750311856.pdf; Part Number: 750311856; Published Date: July 2017; Publisher: Wurth Elektronik; Input Voltage: 8-24Vdc; Size: EP13; Value: 750311856
footprint 750311856
pins: 1, 2, 3, 4, 5, 6, 7, 8, 9, 11, 14, 16
text: 15V, 0.15A; PRI; Connect PRI coils in parallel for 8-24Vin

## 750311889
designator U?  (value not drawn)
WE-FB Flyback Transformer suitable for LT3573/ LT3574/ LT3575/ LT3748, size EFD25, Ui=28Vdc; Input Voltage: 28Vdc; Turns Ratio: 1:5; ComponentLink1Description: Manufacturer; ComponentLink1URL: http://www.we-online.de; ComponentLink2Description: Datasheet; ComponentLink2URL: http://katalog.we-online.de/pbs/datasheet/750311889.pdf; Part Number: 750311889; Published Date: July 2017; Publisher: Wurth Elektronik; Size: EFD25; IC Reference: LT3748; Value: 750311889
footprint 750311889
pins: 1, 2, 7, 9, 10, 12
text: PRI; 28V; SEC; 100-300kHz; 250V, 100mA

## 750311911
designator U?
WE-FB Flyback Transformer suitable for LT3573/ LT3574/ LT3575/ LT3748, size EE20/10/6, Ui=8-24Vdc; Turns Ratio: 1:3:3:3:3; ComponentLink1Description: Manufacturer; ComponentLink1URL: http://www.we-online.de; ComponentLink2Description: Datasheet; ComponentLink2URL: http://katalog.we-online.de/pbs/datasheet/750311911.pdf; Part Number: 750311911; Published Date: July 2017; Publisher: Wurth Elektronik; Input Voltage: 8-24Vdc; Size: EE20/10/6; IC Reference: LT3748; Value: 750311911
footprint 750311911
pins: 1, 2, 3, 4, 5, 6, 7, 8, 9, 10, 11, 12, 13, 14
text: 15V, 0.2A; PRI; 5V, 300mA; Tie PRI coils in parallel for 8-24Vin

## 750370024
designator T?
WURTH ELEKTRONIK         750370024            Isolation Transformer, 6 W, 85V to 265V, 12V; Manufacturer: Wurth Electronics; Power Rating: 6W; Frequency: 115kHz; Resistance: 6.2R; Inductance: 1.6mh; Supplier 1: Digi-Key; Manufacturer Part Number: 750370024; Stock 1: 0; Pricing 1: 130=4.379 (USD); Mount: Through Hole; Min Operating Temperature: -40°C; Max Operating Temperature: 125°C; Packaging: Tray; Package Quantity: 500; Termination: Through Hole; Length: 19.69mm; Height: 10.8mm; Width: 13.72mm; Height - Seated (Max): 10.8mm; REACH SVHC: Unknown; ComponentLink1URL: https://datasheet.ciiva.com/1378/750370024-1378290.pdf; ComponentLink1Description: https://datasheet.ciiva.com/1378/750370024-1378290.pdf; ComponentLink2URL: https://datasheet.ciiva.com/4551/750370024-4551106.pdf; ComponentLink2Description: https://datasheet.ciiva.com/4551/750370024-4551106.pdf; Supplier 2: Mouser; Value: 750370024; Supplier Part Number 2: 710-750370024; Supplier Part Number 1: 732-2252-ND
footprint 750370024_WE_TRANSFO
pins: 1, 3, 4, 5, 6, 9

## 750370040
designator U?  (value not drawn)
WE-FB Flyback Transformer suitable for LT3573/ LT3574/ LT3575/ LT3748, size EP7, Ui=10-30Vdc; IC Reference: LT3574 & LT3573; Turns Ratio: 3:1; ComponentLink1Description: Manufacturer; ComponentLink1URL: http://www.we-online.de; ComponentLink2Description: Datasheet; ComponentLink2URL: http://katalog.we-online.de/pbs/datasheet/750370040.pdf; Part Number: 750370040; Published Date: July 2017; Publisher: Wurth Elektronik; Input Voltage: 10-30Vdc; Size: EP7; Value: 750370040
footprint 750370040
pins: 1, 2, 3, 4, 5, 6, 7, 8
text: PRI; 10-30V; SEC; 5V, 1A; AUX

## 750370041
designator U?
WE-FB Flyback Transformer suitable for LT3573/ LT3574/ LT3575/ LT3748, size EP7, Ui=10-30Vdc; IC Reference: LT3574 & LT3573; Turns Ratio: 3:1; ComponentLink1Description: Manufacturer; ComponentLink1URL: http://www.we-online.de; ComponentLink2Description: Datasheet; ComponentLink2URL: http://katalog.we-online.de/pbs/datasheet/750370041.pdf; Part Number: 750370041; Published Date: July 2017; Publisher: Wurth Elektronik; Input Voltage: 10-30Vdc; Size: EP7; Value: 750370041
footprint 750370041
pins: 1, 2, 3, 4, 5, 6, 7, 8
text: PRI; 10-30V; SEC; 5V, 1A; AUX

## 750370042
designator U?
WE-FB Flyback Transformer suitable for LT3573/ LT3574/ LT3575/ LT3748, size ER9.5, Ui=5Vdc; Input Voltage: 5Vdc; IC Reference: LT3573; Turns Ratio: 1:1; ComponentLink1Description: Manufacturer; ComponentLink1URL: http://www.we-online.de; ComponentLink2Description: Datasheet; ComponentLink2URL: http://katalog.we-online.de/pbs/datasheet/750370042.pdf; Part Number: 750370042; Published Date: July 2017; Publisher: Wurth Elektronik; Size: ER9.5; Value: 750370042
footprint 750370042
pins: 1, 2, 3, 4, 5, 6, 7, 8
text: N1; N3; 5V; 5V, 100mA; N2; N4; 5V, 20mA

## 750370047
designator U?
WE-FB Flyback Transformer suitable for LT3573/ LT3574/ LT3575/ LT3748, size EP7, Ui=10-30Vdc; IC Reference: LT3574 & LT3573; Turns Ratio: 3:1; ComponentLink1Description: Manufacturer; ComponentLink1URL: http://www.we-online.de; ComponentLink2Description: Datasheet; ComponentLink2URL: http://katalog.we-online.de/pbs/datasheet/750370047.pdf; Part Number: 750370047; Published Date: July 2017; Publisher: Wurth Elektronik; Input Voltage: 10-30Vdc; Size: EP7; Value: 750370047
footprint 750370047
pins: 1, 2, 3, 4, 5, 6, 7, 8
text: PRI; 10-30V; 250-500kHz; SEC; 5V, 1A; AUX; 5V, 20mA

## 750370058
designator U?
WE-FB Flyback Transformer suitable for LT3573/ LT3574/ LT3575/ LT3748, size EP7, Ui=10-30Vdc; IC Reference: LT3573; Turns Ratio: 1:1; ComponentLink1Description: Manufacturer; ComponentLink1URL: http://www.we-online.de; ComponentLink2Description: Datasheet; ComponentLink2URL: http://katalog.we-online.de/pbs/datasheet/750370058.pdf; Part Number: 750370058; Published Date: July 2017; Publisher: Wurth Elektronik; Input Voltage: 10-30Vdc; Size: EP7; Value: 750370058
footprint 750370058
pins: 1, 2, 3, 4, 5, 6, 7, 8
text: PRI; 10-30V; SEC; 15V, 400mA; AUX

## 750370059
designator U?
WE-FB Flyback Transformer suitable for LT3573/ LT3574/ LT3575/ LT3748, size EP7, Ui=10-30Vdc; IC Reference: LT3573; Turns Ratio: 3:1; ComponentLink1Description: Manufacturer; ComponentLink1URL: http://www.we-online.de; ComponentLink2Description: Datasheet; ComponentLink2URL: http://katalog.we-online.de/pbs/datasheet/750370059.pdf; Part Number: 750370059; Published Date: July 2017; Publisher: Wurth Elektronik; Input Voltage: 10-30Vdc; Size: EP7; Value: 750370059
footprint 750370059
pins: 1, 2, 3, 4, 5, 6, 7, 8
text: PRI; 10-30V; SEC; 5V, 1A; AUX

## 750811048
designator T?
WE-FB Flyback Transformer suitable for LT3573/ LT3574/ LT3575/ LT3748, size EE16/8/5, Ui=100-400Vdc; Turns Ratio: 4.387:1; ComponentLink1Description: Manufacturer; ComponentLink1URL: http://www.we-online.de; ComponentLink2Description: Datasheet; ComponentLink2URL: http://katalog.we-online.de/pbs/datasheet/750811048.pdf; Part Number: 750811048; Published Date: July 2017; Publisher: Wurth Elektronik; Input Voltage: 100-400Vdc; Size: EE16/8/5; IC Reference: LT3748; Value: 750811048
footprint 750811048
pins: 1, 2, 3, 4, 5, 7, 8
text: PRI; 120-375V; 300kHz; SEC; 30V, 30mA; AUX; 15V